# EAGLE library part USB4105-GF-A (library USB4105)
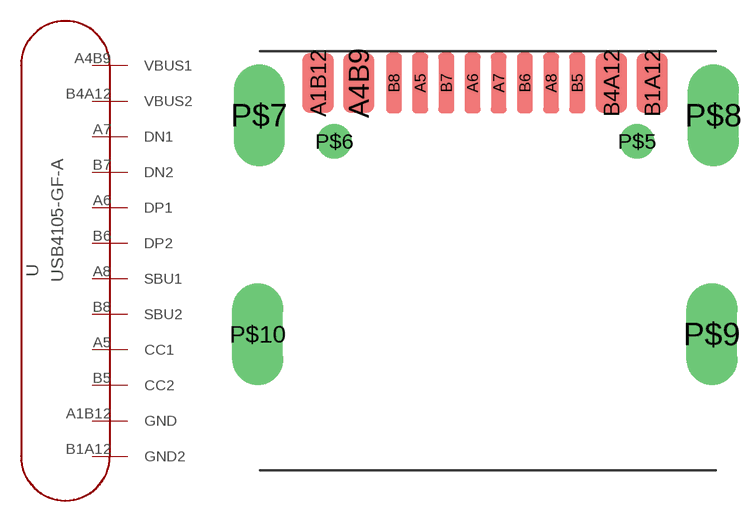
[diagram p0: symbol with the pads of USB4105-GF-A; footprint USB4105-GF-A]

Designator prefix -

## USB4105-GF-A  [USB4105-GF-A]
A1B12  GND  pwr
A4B9  VBUS1  pwr
A5  CC1
A6  DP1
A7  DN1
A8  SBU1  nc
B1A12  GND2  pwr
B4A12  VBUS2  pwr
B5  CC2
B6  DP2
B7  DN2
B8  SBU2  nc

## Footprint USB4105-GF-A (pad centres in mm)
smd 1.524 x 2.921: A1B12 -8.103,10.147; A4B9 -6.121,10.147; B1A12 8.103,10.147; B4A12 6.121,10.147
smd 0.762 x 2.921: A5 -3.15,10.147; A6 -0.61,10.147; A7 0.66,10.147; A8 3.2,10.147; B5 4.47,10.147; B6 1.93,10.147; B7 -1.88,10.147; B8 -4.42,10.147
drill 1 pad 1.676: P$5 7.366,7.315; P$6 -7.315,7.315
drill 1.651 pad 1.93 long: P$7 -10.947,8.585; P$8 11.074,8.585; P$9 10.998,-2.032; P$10 -11.024,-2.032